# Altium schematic symbol library NUCLEO-F303K8.SchLib: 1 symbol
Pins are listed as number, name and electrical type; pins without a type are passive.

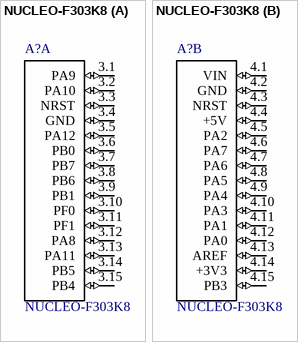
[diagram p0: symbol NUCLEO-F303K8]

## NUCLEO-F303K8
designator A?
/ STM32 Nucleo-32 development board with STM32F303K8T6 MCU, supports Arduino connectivity /; MF: STMicroelectronics; SnapEDA_Link: https://www.snapeda.com/parts/NUCLEO-F303K8/STMicroelectronics/view-part/?ref=snap; Price: None; MP: NUCLEO-F303K8; Availability: Unavailable; Package: None; Value: *
footprint *MODULE_NUCLEO-F303K8_NUCLEO-F303K8(Primary)
part A pins: 3.1 PA9 (io), 3.2 PA10 (io), 3.3 NRST (io), 3.4 GND (io), 3.5 PA12 (io), 3.6 PB0 (io), 3.7 PB7 (io), 3.8 PB6 (io), 3.9 PB1 (io), 3.10 PF0 (io), 3.11 PF1 (io), 3.12 PA8 (io), 3.13 PA11 (io), 3.14 PB5 (io), 3.15 PB4 (io)
part B pins: 4.1 VIN (io), 4.2 GND (io), 4.3 NRST (io), 4.4 +5V (io), 4.5 PA2 (io), 4.6 PA7 (io), 4.7 PA6 (io), 4.8 PA5 (io), 4.9 PA4 (io), 4.10 PA3 (io), 4.11 PA1 (io), 4.12 PA0 (io), 4.13 AREF (io), 4.14 +3V3 (io), 4.15 PB3 (io)